# EAGLE library part GY-521_MPU6050 (library HeRo)
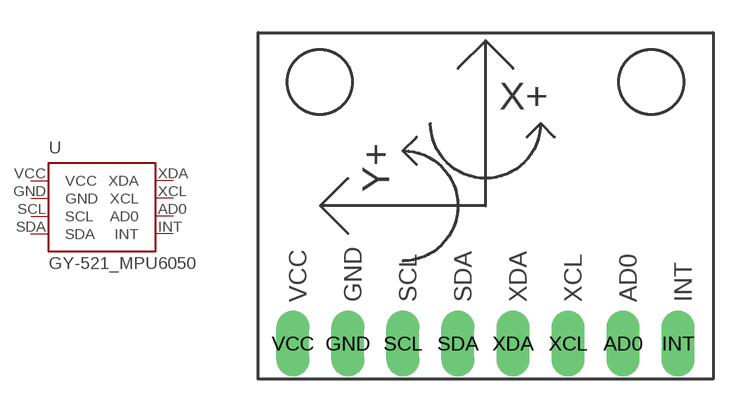
[diagram p5: symbol with the pads of GY-521_MPU6050; footprint GY-521_MPU6050]

Designator prefix -

## GY-521_MPU6050  [GY-521_MPU6050]
AD0  AD0
GND  GND
INT  INT
SCL  SCL
SDA  SDA
VCC  VCC
XCL  XCL
XDA  XDA

## Footprint GY-521_MPU6050 (pad centres in mm)
drill 1.016 long: AD0 6.35,-6.35; GND -6.35,-6.35; INT 8.89,-6.35; SCL -3.81,-6.35; SDA -1.27,-6.35; VCC -8.89,-6.35; XCL 3.81,-6.35; XDA 1.27,-6.35
hole 3 at -7.65,5.715
hole 3 at 7.65,5.715